# EAGLE library part A3256-Q48 (library LunchBox48_ASIC_board)
Avalon ASIC chip A3256Q48
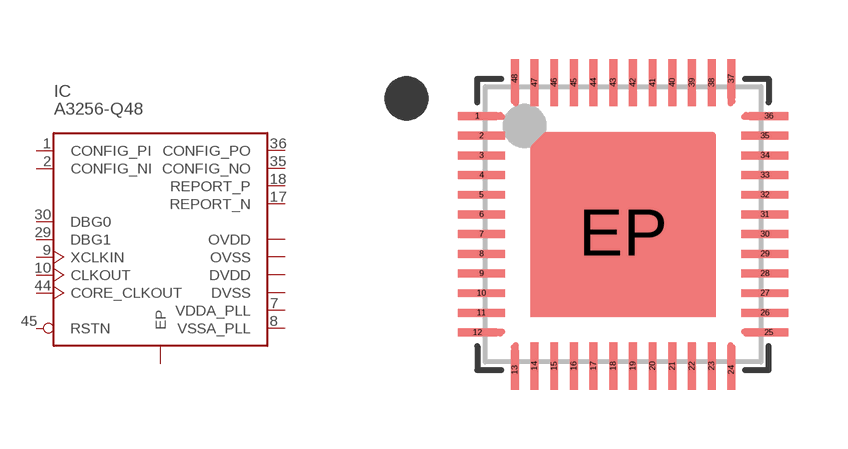
[diagram p0: symbol with the pads of QFN48_EP; footprint QFN48_EP]

Designator prefix IC

## A3256-Q48  [QFN48_EP]
1  CONFIG_PI  in
2  CONFIG_NI  in
3  DVDD  pwr
4  DVDD  pwr
5  DVSS  pwr
6  DVDD  pwr
7  VDDA_PLL  pwr
8  VSSA_PLL  pwr
9  XCLKIN  in
10  CLKOUT  out
11  DVDD  pwr
12  DVDD  pwr
13  DVDD  pwr
14  DVDD  pwr
15  DVDD  pwr
16  DVDD  pwr
17  REPORT_N  out
18  REPORT_P  out
19  DVDD  pwr
20  DVSS  pwr
21  DVDD  pwr
22  DVDD  pwr
23  OVSS  pwr
24  OVDD  pwr
25  DVDD  pwr
26  DVDD  pwr
27  DVDD  pwr
28  DVDD  pwr
29  DBG1  out
30  DBG0  out
31  DVDD  pwr
32  DVSS  pwr
33  DVDD  pwr
34  DVDD  pwr
35  CONFIG_NO  out
36  CONFIG_PO  out
37  OVDD  pwr
38  OVSS  pwr
39  DVDD  pwr
40  DVDD  pwr
41  DVDD  pwr
42  DVSS  pwr
43  DVDD  pwr
44  CORE_CLKOUT  out
45  RSTN  in
46  DVDD  pwr
47  DVDD  pwr
48  DVDD  pwr
EP  EP  pwr

## Footprint QFN48_EP (pad centres in mm)
smd 1 x 0.2: 1 -3.7,2.75; 12 -3.7,-2.75; 25 3.7,-2.75; 36 3.7,2.75
smd 1.2 x 0.2: 2 -3.6,2.25; 3 -3.6,1.75; 4 -3.6,1.25; 5 -3.6,0.75; 6 -3.6,0.25; 7 -3.6,-0.25; 8 -3.6,-0.75; 9 -3.6,-1.25; 10 -3.6,-1.75; 11 -3.6,-2.25; 26 3.6,-2.25; 27 3.6,-1.75; 28 3.6,-1.25; 29 3.6,-0.75; 30 3.6,-0.25; 31 3.6,0.25; 32 3.6,0.75; 33 3.6,1.25; 34 3.6,1.75; 35 3.6,2.25
smd 0.2 x 1: 13 -2.75,-3.7; 24 2.75,-3.7; 37 2.75,3.7; 48 -2.75,3.7
smd 0.2 x 1.2: 14 -2.25,-3.6; 15 -1.75,-3.6; 16 -1.25,-3.6; 17 -0.75,-3.6; 18 -0.25,-3.6; 19 0.25,-3.6; 20 0.75,-3.6; 21 1.25,-3.6; 22 1.75,-3.6; 23 2.25,-3.6; 38 2.25,3.6; 39 1.75,3.6; 40 1.25,3.6; 41 0.75,3.6; 42 0.25,3.6; 43 -0.25,3.6; 44 -0.75,3.6; 45 -1.25,3.6; 46 -1.75,3.6; 47 -2.25,3.6
smd 4.7 x 4.3: EP 0,-0.2